# EAGLE library part OPA4377 (library Bauteile)
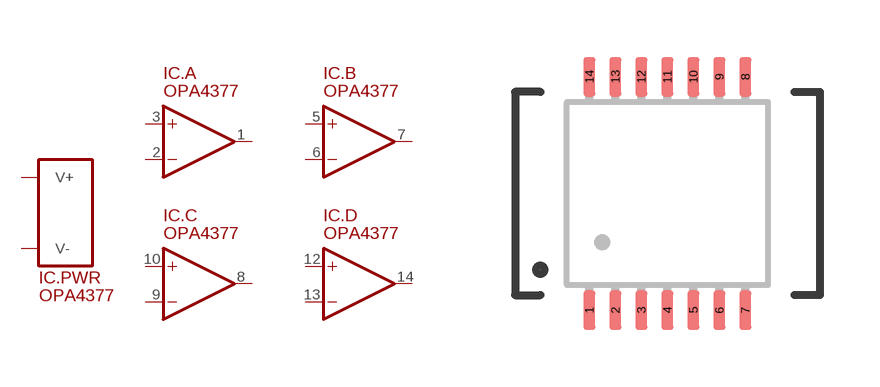
[diagram p36: symbol with the pads of TSSOP14; footprint TSSOP14]

Designator prefix IC; gates .PWR=SUPPLY_V+/V- .A=OP .B=OP .C=OP .D=OP

## OPA4377  [TSSOP14]
1  .A:OUT
2  .A:-IN
3  .A:+IN
4  .PWR:V+
5  .B:+IN
6  .B:-IN
7  .B:OUT
8  .C:OUT
9  .C:-IN
10  .C:+IN
11  .PWR:V-
12  .D:+IN
13  .D:-IN
14  .D:OUT

## Footprint TSSOP14 (pad centres in mm)
smd 0.305 x 0.991: 1 -1.95,-2.918; 2 -1.3,-2.918; 3 -0.65,-2.918; 4 0,-2.918; 5 0.65,-2.918; 6 1.3,-2.918; 7 1.95,-2.918; 8 1.95,2.918; 9 1.3,2.918; 10 0.65,2.918; 11 0,2.918; 12 -0.65,2.918; 13 -1.3,2.918; 14 -1.95,2.918